# Altium integrated library Maxim Digital Potentiometers.IntLib: 1045 symbols (part 30 of 42)
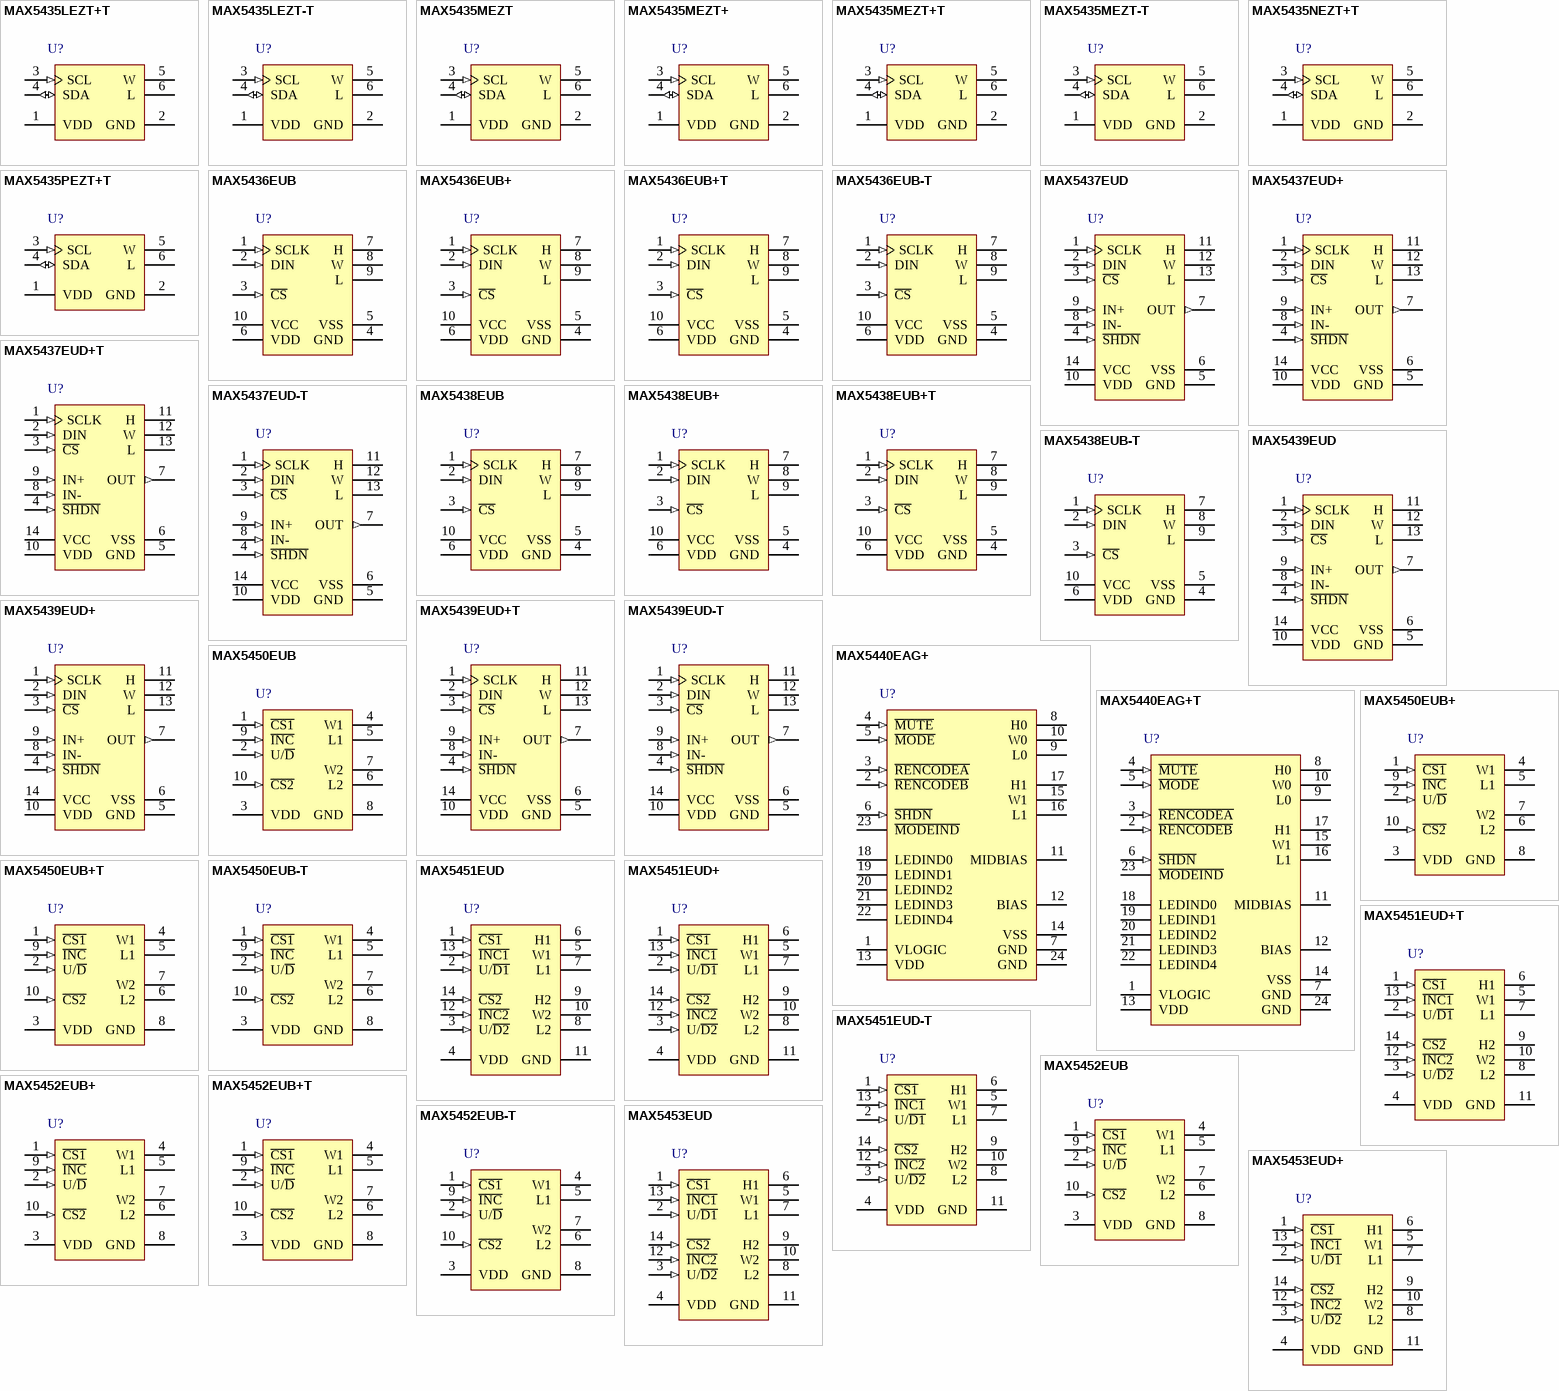
[diagram p58: symbols MAX5435LEZT+T to MAX5453EUD+]

## MAX5440EAG+T
designator U?
Stereo Volume Control with Rotary Encoder Control Interface, Volatile, Log Taper, 32 Steps, -40 to 85 degC, 24-pin SSOP (A24+1), Pb-Free, Tape and Reel; PartNumber: MAX5440EAG+T; DatasheetVersion: Rev. 2; PackageVersion: Rev. C, 02/2010; PackageReference: A24+1; PackageDescription: 24-Pin Shrink Small-Outline Package (A24+1), Body 8.2 x 5.29 mm, Pitch 0.65 mm; Supplier 1: Digi-Key; Supplier Part Number 1: MAX5440EAG+T-ND; Supplier 2: Mouser; Supplier Part Number 2: 700-MAX5440EAGT; Applications: Automotive Back-Seat Multimedia, Desktop Speakers ,Multimedia Docking Stations ,Set-Top Boxes ,Stereo Volume Control; Control Interface: Rotary Encoder; Features: Buffered Wiper Outputs, Five-Segment LED Display Driver ,Low THD+N and Crosstalk ,Rotary Encoder Interface ,Zero-Crossing Detector; Mounting Technology: Surface Mount; Code_JEDEC: MO150; ComponentLink1Description: Manufacturer URL; ComponentLink1URL: http://www.maximintegrated.com/; ComponentLink2Description: Datasheet; ComponentLink2URL: http://datasheets.maximintegrated.com/en/ds/MAX5440.pdf; ComponentLink3Description: Package Specification; ComponentLink3URL: http://pdfserv.maximintegrated.com/package_dwgs/21-0056.PDF
footprint MAXM-A24+1_N (SOP, 24-Leads, Body 8.2x5.29mm, Pitch 0.65mm, IPC Medium Density)
footprint MAXM-A24+1_L (SOP, 24-Leads, Body 8.2x5.29mm, Pitch 0.65mm, IPC High Density)
footprint MAXM-A24+1_M (SOP, 24-Leads, Body 8.2x5.29mm, Pitch 0.65mm, IPC Low Density)
pins: 1 VLOGIC (power) "Digital Logic Power Supply. Bypass VLOGIC to ground with a 0.1uF capacitor as close to the device as possible.", 2 ~{RENCODEB} (in) "Rotary Encoder Input B. With R\E\N\C\O\D\E\A\, this input provides the rotary encoder control for the potentiometer (see Figure 1). R\E\N\C\O\D\E\B\ is internally pulled up to VLOGIC with a 45k ohm resistor.", 3 ~{RENCODEA} (in) "Rotary Encoder Input A. With R\E\N\C\O\D\E\B\, this input provides the rotary encoder control for the potentiometer (see Figure 1). R\E\N\C\O\D\E\A\ is internally pulled up to VLOGIC with a 45k ohm resistor.", 4 ~{MUTE} (in) "Mute Input. Pull M\U\T\E\ low to toggle the wiper between the mute setting (see Table 1) and the current setting. M\U\T\E\ is pulled up to VLOGIC with an internal 45k ohm resistor.", 5 ~{MODE} (in) "Volume/Balance Control Input. Each high-to-low transition on M\O\D\E\ toggles between the volume and balance modes. M\O\D\E\ is pulled high internally with a 45k ohm resistor to VLOGIC. On power-up, the MAX5440 is in (See Datasheet)", 6 ~{SHDN} (in) "Active-Low Shutdown Input. Drive S\H\D\N\ low to place the device in shutdown mode. In shutdown mode, the MAX5440 stores the last wipers settings. The wipers move to the L_ end of the resistor string. Terminating shutdown (See Datasheet)", 7 GND (power) "Ground. Connect pins 7 and 24 together.", 8 H0 "Potentiometer 0 High Terminal. H0 and L0 terminals can be reversed.", 9 L0 "Potentiometer 0 Low Terminal. L0 and H0 terminals can be reversed.", 10 W0 "Potentiometer 0 Wiper Buffered Output", 11 MIDBIAS (power) "Midbias Voltage Output. VMIDBIAS = (VDD + VSS) / 2.", 12 BIAS "Bias Generator Input. Bypass with a 1uF capacitor to system ground.", 13 VDD (power) "Analog Power Supply. Bypass VDD to ground with a 0.1uF capacitor as close to the device as possible.", 14 VSS (power) "Negative Power Supply. Bypass VSS to ground with a 0.1uF capacitor as close to the device as possible. Connect to GND for single-supply operation.", 15 W1 "Potentiometer 1 Wiper Buffered Output", 16 L1 "Potentiometer 1 Low Terminal. L1 and H1 terminals can be reversed.", 17 H1 "Potentiometer 1 High Terminal. H1 and L1 terminals can be reversed.", 18 LEDIND0 (oc) "LED Indicator Open-Drain Output 0 through LED Indicator Open-Drain Output 4. LEDIND 0-LEDIND 4 form a bar graph indication of the current volume or balance. In volume mode, all LEDs off indicates mute and all LEDs on (See Datasheet)", 19 LEDIND1 (oc) "LED Indicator Open-Drain Output 0 through LED Indicator Open-Drain Output 4. LEDIND 0-LEDIND 4 form a bar graph indication of the current volume or balance. In volume mode, all LEDs off indicates mute and all LEDs on (See Datasheet)", 20 LEDIND2 (oc) "LED Indicator Open-Drain Output 0 through LED Indicator Open-Drain Output 4. LEDIND 0-LEDIND 4 form a bar graph indication of the current volume or balance. In volume mode, all LEDs off indicates mute and all LEDs on (See Datasheet)", 21 LEDIND3 (oc) "LED Indicator Open-Drain Output 0 through LED Indicator Open-Drain Output 4. LEDIND 0-LEDIND 4 form a bar graph indication of the current volume or balance. In volume mode, all LEDs off indicates mute and all LEDs on (See Datasheet)", 22 LEDIND4 (oc) "LED Indicator Open-Drain Output 0 through LED Indicator Open-Drain Output 4. LEDIND 0-LEDIND 4 form a bar graph indication of the current volume or balance. In volume mode, all LEDs off indicates mute and all LEDs on (See Datasheet)", 23 ~{MODEIND} (oc) "Volume-Control/Balance-Control Mode Indicator Open-Drain Output. Connect to an LED through a resistor to VLOGIC. When the LED is on, the MAX5440 is in balance-control mode. When the LED is off, the MAX5440 is in (See Datasheet)", 24 GND (power) "Ground. Connect pins 7 and 24 together."

## MAX5450EUB
designator U?
Dual Digital Potentiometers with Up/Down Control Interface, Volatile, Linear Taper, 256 Steps, -40 to 85 degC, 10-pin uMAX (U10CN-1); PartNumber: MAX5450EUB; DatasheetVersion: Rev. 2; PackageVersion: Rev. L, 07/2008; PackageReference: U10CN-1; PackageDescription: 10-Pin Micro-MAX, Thin Shrink Small-Outline (U10CN-1), Body 3 x 3 mm, Pitch 0.5 mm; Supplier 1: Mouser; Supplier Part Number 1: N/A; Control Interface: Up/Down; Mounting Technology: Surface Mount; Code_JEDEC: MO-187; ComponentLink1Description: Manufacturer URL; ComponentLink1URL: http://www.maximintegrated.com/; ComponentLink2Description: Datasheet; ComponentLink2URL: http://datasheets.maximintegrated.com/en/ds/MAX5450-MAX5455.pdf; ComponentLink3Description: Package Specification; ComponentLink3URL: http://pdfserv.maximintegrated.com/package_dwgs/21-0061.PDF
footprint MAXM-U10CN-1_N (SOP, 10-Leads, Body 3x3mm, Pitch 0.5mm, IPC Medium Density)
footprint MAXM-U10CN-1_L (SOP, 10-Leads, Body 3x3mm, Pitch 0.5mm, IPC High Density)
footprint MAXM-U10CN-1_M (SOP, 10-Leads, Body 3x3mm, Pitch 0.5mm, IPC Low Density)
pins: 1 ~{CS1} (in) "Chip-Select Input of Resistor 1. Drive low to change wiper position W1 through I\N\C\ and U/D\.", 2 U/~{D} (in) "Up/Down Control Input. With U/D\ low, a high-to-low I\N\C\ transition decrements wiper position. With U/D\ high, a high-to-low I\N\C\ transition increments wiper position.", 3 VDD (power) "Power Supply", 4 W1 "Wiper Terminal of Resistor 1", 5 L1 "Low Terminal of Resistor 1", 6 L2 "Low Terminal of Resistor 2", 7 W2 "Wiper Terminal of Resistor 2", 8 GND (power) "Ground", 9 ~{INC} (in) "Wiper Increment Control Input. With C\S\1\  low, a high-to-low transition increments (U/D\ high) or decrements (U/D\ low) wiper position W1. This applies similarly for C\S\2\ and W2.", 10 ~{CS2} (in) "Chip-Select Input of Resistor 2.  Drive low to change wiper position W2 through I\N\C\ and U/D\."

## MAX5450EUB+
designator U?
Dual Digital Potentiometers with Up/Down Control Interface, Volatile, Linear Taper, 256 Steps, -40 to 85 degC, 10-pin uMAX (U10CN+1), Pb-Free; PartNumber: MAX5450EUB+; DatasheetVersion: Rev. 2; PackageVersion: Rev. L, 07/2008; PackageReference: U10CN+1; PackageDescription: 10-Pin Micro-MAX, Thin Shrink Small-Outline (U10CN+1), Body 3 x 3 mm, Pitch 0.5 mm; Supplier 1: Digi-Key; Supplier Part Number 1: MAX5450EUB+-ND; Supplier 2: Mouser; Supplier Part Number 2: 700-MAX5450EUB; Control Interface: Up/Down; Mounting Technology: Surface Mount; Code_JEDEC: MO-187; ComponentLink1Description: Manufacturer URL; ComponentLink1URL: http://www.maximintegrated.com/; ComponentLink2Description: Datasheet; ComponentLink2URL: http://datasheets.maximintegrated.com/en/ds/MAX5450-MAX5455.pdf; ComponentLink3Description: Package Specification; ComponentLink3URL: http://pdfserv.maximintegrated.com/package_dwgs/21-0061.PDF
footprint MAXM-U10CN+1_N (SOP, 10-Leads, Body 3x3mm, Pitch 0.5mm, IPC Medium Density)
footprint MAXM-U10CN+1_L (SOP, 10-Leads, Body 3x3mm, Pitch 0.5mm, IPC High Density)
footprint MAXM-U10CN+1_M (SOP, 10-Leads, Body 3x3mm, Pitch 0.5mm, IPC Low Density)
pins: 1 ~{CS1} (in) "Chip-Select Input of Resistor 1. Drive low to change wiper position W1 through I\N\C\ and U/D\.", 2 U/~{D} (in) "Up/Down Control Input. With U/D\ low, a high-to-low I\N\C\ transition decrements wiper position. With U/D\ high, a high-to-low I\N\C\ transition increments wiper position.", 3 VDD (power) "Power Supply", 4 W1 "Wiper Terminal of Resistor 1", 5 L1 "Low Terminal of Resistor 1", 6 L2 "Low Terminal of Resistor 2", 7 W2 "Wiper Terminal of Resistor 2", 8 GND (power) "Ground", 9 ~{INC} (in) "Wiper Increment Control Input. With C\S\1\  low, a high-to-low transition increments (U/D\ high) or decrements (U/D\ low) wiper position W1. This applies similarly for C\S\2\ and W2.", 10 ~{CS2} (in) "Chip-Select Input of Resistor 2.  Drive low to change wiper position W2 through I\N\C\ and U/D\."

## MAX5450EUB+T
designator U?
Dual Digital Potentiometers with Up/Down Control Interface, Volatile, Linear Taper, 256 Steps, -40 to 85 degC, 10-pin uMAX (U10CN+1), Pb-Free, Tape and Reel; PartNumber: MAX5450EUB+T; DatasheetVersion: Rev. 2; PackageVersion: Rev. L, 07/2008; PackageReference: U10CN+1; PackageDescription: 10-Pin Micro-MAX, Thin Shrink Small-Outline (U10CN+1), Body 3 x 3 mm, Pitch 0.5 mm; Supplier 1: Digi-Key; Supplier Part Number 1: MAX5450EUB+T-ND; Supplier 2: Mouser; Supplier Part Number 2: 700-MAX5450EUBT; Control Interface: Up/Down; Mounting Technology: Surface Mount; Code_JEDEC: MO-187; ComponentLink1Description: Manufacturer URL; ComponentLink1URL: http://www.maximintegrated.com/; ComponentLink2Description: Datasheet; ComponentLink2URL: http://datasheets.maximintegrated.com/en/ds/MAX5450-MAX5455.pdf; ComponentLink3Description: Package Specification; ComponentLink3URL: http://pdfserv.maximintegrated.com/package_dwgs/21-0061.PDF
footprint MAXM-U10CN+1_N (SOP, 10-Leads, Body 3x3mm, Pitch 0.5mm, IPC Medium Density)
footprint MAXM-U10CN+1_L (SOP, 10-Leads, Body 3x3mm, Pitch 0.5mm, IPC High Density)
footprint MAXM-U10CN+1_M (SOP, 10-Leads, Body 3x3mm, Pitch 0.5mm, IPC Low Density)
pins: 1 ~{CS1} (in) "Chip-Select Input of Resistor 1. Drive low to change wiper position W1 through I\N\C\ and U/D\.", 2 U/~{D} (in) "Up/Down Control Input. With U/D\ low, a high-to-low I\N\C\ transition decrements wiper position. With U/D\ high, a high-to-low I\N\C\ transition increments wiper position.", 3 VDD (power) "Power Supply", 4 W1 "Wiper Terminal of Resistor 1", 5 L1 "Low Terminal of Resistor 1", 6 L2 "Low Terminal of Resistor 2", 7 W2 "Wiper Terminal of Resistor 2", 8 GND (power) "Ground", 9 ~{INC} (in) "Wiper Increment Control Input. With C\S\1\  low, a high-to-low transition increments (U/D\ high) or decrements (U/D\ low) wiper position W1. This applies similarly for C\S\2\ and W2.", 10 ~{CS2} (in) "Chip-Select Input of Resistor 2.  Drive low to change wiper position W2 through I\N\C\ and U/D\."

## MAX5450EUB-T
designator U?
Dual Digital Potentiometers with Up/Down Control Interface, Volatile, Linear Taper, 256 Steps, -40 to 85 degC, 10-pin uMAX (U10CN-1), Tape and Reel; PartNumber: MAX5450EUB-T; DatasheetVersion: Rev. 2; PackageVersion: Rev. L, 07/2008; PackageReference: U10CN-1; PackageDescription: 10-Pin Micro-MAX, Thin Shrink Small-Outline (U10CN-1), Body 3 x 3 mm, Pitch 0.5 mm; Supplier 1: Mouser; Supplier Part Number 1: N/A; Control Interface: Up/Down; Mounting Technology: Surface Mount; Code_JEDEC: MO-187; ComponentLink1Description: Manufacturer URL; ComponentLink1URL: http://www.maximintegrated.com/; ComponentLink2Description: Datasheet; ComponentLink2URL: http://datasheets.maximintegrated.com/en/ds/MAX5450-MAX5455.pdf; ComponentLink3Description: Package Specification; ComponentLink3URL: http://pdfserv.maximintegrated.com/package_dwgs/21-0061.PDF
footprint MAXM-U10CN-1_N (SOP, 10-Leads, Body 3x3mm, Pitch 0.5mm, IPC Medium Density)
footprint MAXM-U10CN-1_L (SOP, 10-Leads, Body 3x3mm, Pitch 0.5mm, IPC High Density)
footprint MAXM-U10CN-1_M (SOP, 10-Leads, Body 3x3mm, Pitch 0.5mm, IPC Low Density)
pins: 1 ~{CS1} (in) "Chip-Select Input of Resistor 1. Drive low to change wiper position W1 through I\N\C\ and U/D\.", 2 U/~{D} (in) "Up/Down Control Input. With U/D\ low, a high-to-low I\N\C\ transition decrements wiper position. With U/D\ high, a high-to-low I\N\C\ transition increments wiper position.", 3 VDD (power) "Power Supply", 4 W1 "Wiper Terminal of Resistor 1", 5 L1 "Low Terminal of Resistor 1", 6 L2 "Low Terminal of Resistor 2", 7 W2 "Wiper Terminal of Resistor 2", 8 GND (power) "Ground", 9 ~{INC} (in) "Wiper Increment Control Input. With C\S\1\  low, a high-to-low transition increments (U/D\ high) or decrements (U/D\ low) wiper position W1. This applies similarly for C\S\2\ and W2.", 10 ~{CS2} (in) "Chip-Select Input of Resistor 2.  Drive low to change wiper position W2 through I\N\C\ and U/D\."

## MAX5451EUD
designator U?
Dual, Digital Potentiometers with Up/Down Control Interface, Volatile, Linear Taper, 256 Steps, -40 to 85 degC, 14-pin TSSOP (U14-1); PartNumber: MAX5451EUD; DatasheetVersion: Rev. 2; PackageVersion: Rev. L, 07/2010; PackageReference: U14-1; PackageDescription: 14-Pin Thin Shrink Small-Outline Package (U14-1), Body 5 x 4.4 mm, Pitch 0.65 mm; Supplier 1: Mouser; Supplier Part Number 1: N/A; Control Interface: Up/Down; Mounting Technology: Surface Mount; Code_JEDEC: MO-153; ComponentLink1Description: Manufacturer URL; ComponentLink1URL: http://www.maximintegrated.com/; ComponentLink2Description: Datasheet; ComponentLink2URL: http://datasheets.maximintegrated.com/en/ds/MAX5450-MAX5455.pdf; ComponentLink3Description: Package Specification; ComponentLink3URL: http://pdfserv.maximintegrated.com/package_dwgs/21-0066.PDF
footprint MAXM-U14-1_N (SOP, 14-Leads, Body 5x4.4mm, Pitch 0.65mm, IPC Medium Density)
footprint MAXM-U14-1_L (SOP, 14-Leads, Body 5x4.4mm, Pitch 0.65mm, IPC High Density)
footprint MAXM-U14-1_M (SOP, 14-Leads, Body 5x4.4mm, Pitch 0.65mm, IPC Low Density)
pins: 1 ~{CS1} (in) "Chip-Select Input of Resistor 1. Drive low to change wiper position W1 through I\N\C\ and U/D\.", 2 U/~{D1} (in) "Up/Down Control Input of Resistor 1. With U/D\1\ low, a high-to-low I\N\C\1\ transition decrements wiper position W1. With U/D\1\ high, a high-to-low I\N\C\1\ transition increments wiper position W1.", 3 U/~{D2} (in) "Up/Down Control Input of Resistor 2. With U/D\2\ low, a high-to-low I\N\C\2\ transition decrements wiper position W2.  With U/D\2\ high, a high-to-low I\N\C\2\ transition increments wiper position W2.", 4 VDD (power) "Power Supply", 5 W1 "Wiper Terminal of Resistor 1", 6 H1 "High Terminal of Resistor 1", 7 L1 "Low Terminal of Resistor 1", 8 L2 "Low Terminal of Resistor 2", 9 H2 "High Terminal of Resistor 2", 10 W2 "Wiper Terminal of Resistor 2", 11 GND (power) "Ground", 12 ~{INC2} (in) "Wiper Increment Control Input. With C\S\2\ low, a high-to-low transition increments (U/D\2\ high) or decrements (U/D\2\ low) wiper position W2.", 13 ~{INC1} (in) "Wiper Increment Control Input. With C\S\1\ low, a high-to-low transition increments (U/D\1\ high) or decrements (U/D\1\ low) wiper position W1.", 14 ~{CS2} (in) "Chip-Select Input of Resistor 2.  Drive low to change wiper position W2 through I\N\C\ and U/D\."

## MAX5451EUD+
designator U?
Dual, Digital Potentiometers with Up/Down Control Interface, Volatile, Linear Taper, 256 Steps, -40 to 85 degC, 14-pin TSSOP (U14+1), Pb-Free; PartNumber: MAX5451EUD+; DatasheetVersion: Rev. 2; PackageVersion: Rev. L, 07/2010; PackageReference: U14+1; PackageDescription: 14-Pin Thin Shrink Small-Outline Package (U14+1), Body 5 x 4.4 mm, Pitch 0.65 mm; Supplier 1: Digi-Key; Supplier Part Number 1: MAX5451EUD+-ND; Supplier 2: Mouser; Supplier Part Number 2: 700-MAX5451EUD; Control Interface: Up/Down; Mounting Technology: Surface Mount; Code_JEDEC: MO-153; ComponentLink1Description: Manufacturer URL; ComponentLink1URL: http://www.maximintegrated.com/; ComponentLink2Description: Datasheet; ComponentLink2URL: http://datasheets.maximintegrated.com/en/ds/MAX5450-MAX5455.pdf; ComponentLink3Description: Package Specification; ComponentLink3URL: http://pdfserv.maximintegrated.com/package_dwgs/21-0066.PDF
footprint MAXM-U14+1_N (SOP, 14-Leads, Body 5x4.4mm, Pitch 0.65mm, IPC Medium Density)
footprint MAXM-U14+1_L (SOP, 14-Leads, Body 5x4.4mm, Pitch 0.65mm, IPC High Density)
footprint MAXM-U14+1_M (SOP, 14-Leads, Body 5x4.4mm, Pitch 0.65mm, IPC Low Density)
pins: 1 ~{CS1} (in) "Chip-Select Input of Resistor 1. Drive low to change wiper position W1 through I\N\C\ and U/D\.", 2 U/~{D1} (in) "Up/Down Control Input of Resistor 1. With U/D\1\ low, a high-to-low I\N\C\1\ transition decrements wiper position W1. With U/D\1\ high, a high-to-low I\N\C\1\ transition increments wiper position W1.", 3 U/~{D2} (in) "Up/Down Control Input of Resistor 2. With U/D\2\ low, a high-to-low I\N\C\2\ transition decrements wiper position W2.  With U/D\2\ high, a high-to-low I\N\C\2\ transition increments wiper position W2.", 4 VDD (power) "Power Supply", 5 W1 "Wiper Terminal of Resistor 1", 6 H1 "High Terminal of Resistor 1", 7 L1 "Low Terminal of Resistor 1", 8 L2 "Low Terminal of Resistor 2", 9 H2 "High Terminal of Resistor 2", 10 W2 "Wiper Terminal of Resistor 2", 11 GND (power) "Ground", 12 ~{INC2} (in) "Wiper Increment Control Input. With C\S\2\ low, a high-to-low transition increments (U/D\2\ high) or decrements (U/D\2\ low) wiper position W2.", 13 ~{INC1} (in) "Wiper Increment Control Input. With C\S\1\ low, a high-to-low transition increments (U/D\1\ high) or decrements (U/D\1\ low) wiper position W1.", 14 ~{CS2} (in) "Chip-Select Input of Resistor 2.  Drive low to change wiper position W2 through I\N\C\ and U/D\."

## MAX5451EUD+T
designator U?
Dual, Digital Potentiometers with Up/Down Control Interface, Volatile, Linear Taper, 256 Steps, -40 to 85 degC, 14-pin TSSOP (U14+1), Pb-Free, Tape and Reel; PartNumber: MAX5451EUD+T; DatasheetVersion: Rev. 2; PackageVersion: Rev. L, 07/2010; PackageReference: U14+1; PackageDescription: 14-Pin Thin Shrink Small-Outline Package (U14+1), Body 5 x 4.4 mm, Pitch 0.65 mm; Supplier 1: Digi-Key; Supplier Part Number 1: MAX5451EUD+T-ND; Supplier 2: Mouser; Supplier Part Number 2: 700-MAX5451EUDT; Control Interface: Up/Down; Mounting Technology: Surface Mount; Code_JEDEC: MO-153; ComponentLink1Description: Manufacturer URL; ComponentLink1URL: http://www.maximintegrated.com/; ComponentLink2Description: Datasheet; ComponentLink2URL: http://datasheets.maximintegrated.com/en/ds/MAX5450-MAX5455.pdf; ComponentLink3Description: Package Specification; ComponentLink3URL: http://pdfserv.maximintegrated.com/package_dwgs/21-0066.PDF
footprint MAXM-U14+1_N (SOP, 14-Leads, Body 5x4.4mm, Pitch 0.65mm, IPC Medium Density)
footprint MAXM-U14+1_L (SOP, 14-Leads, Body 5x4.4mm, Pitch 0.65mm, IPC High Density)
footprint MAXM-U14+1_M (SOP, 14-Leads, Body 5x4.4mm, Pitch 0.65mm, IPC Low Density)
pins: 1 ~{CS1} (in) "Chip-Select Input of Resistor 1. Drive low to change wiper position W1 through I\N\C\ and U/D\.", 2 U/~{D1} (in) "Up/Down Control Input of Resistor 1. With U/D\1\ low, a high-to-low I\N\C\1\ transition decrements wiper position W1. With U/D\1\ high, a high-to-low I\N\C\1\ transition increments wiper position W1.", 3 U/~{D2} (in) "Up/Down Control Input of Resistor 2. With U/D\2\ low, a high-to-low I\N\C\2\ transition decrements wiper position W2.  With U/D\2\ high, a high-to-low I\N\C\2\ transition increments wiper position W2.", 4 VDD (power) "Power Supply", 5 W1 "Wiper Terminal of Resistor 1", 6 H1 "High Terminal of Resistor 1", 7 L1 "Low Terminal of Resistor 1", 8 L2 "Low Terminal of Resistor 2", 9 H2 "High Terminal of Resistor 2", 10 W2 "Wiper Terminal of Resistor 2", 11 GND (power) "Ground", 12 ~{INC2} (in) "Wiper Increment Control Input. With C\S\2\ low, a high-to-low transition increments (U/D\2\ high) or decrements (U/D\2\ low) wiper position W2.", 13 ~{INC1} (in) "Wiper Increment Control Input. With C\S\1\ low, a high-to-low transition increments (U/D\1\ high) or decrements (U/D\1\ low) wiper position W1.", 14 ~{CS2} (in) "Chip-Select Input of Resistor 2.  Drive low to change wiper position W2 through I\N\C\ and U/D\."

## MAX5451EUD-T
designator U?
Dual, Digital Potentiometers with Up/Down Control Interface, Volatile, Linear Taper, 256 Steps, -40 to 85 degC, 14-pin TSSOP (U14-1), Tape and Reel; PartNumber: MAX5451EUD-T; DatasheetVersion: Rev. 2; PackageVersion: Rev. L, 07/2010; PackageReference: U14-1; PackageDescription: 14-Pin Thin Shrink Small-Outline Package (U14-1), Body 5 x 4.4 mm, Pitch 0.65 mm; Supplier 1: Mouser; Supplier Part Number 1: N/A; Control Interface: Up/Down; Mounting Technology: Surface Mount; Code_JEDEC: MO-153; ComponentLink1Description: Manufacturer URL; ComponentLink1URL: http://www.maximintegrated.com/; ComponentLink2Description: Datasheet; ComponentLink2URL: http://datasheets.maximintegrated.com/en/ds/MAX5450-MAX5455.pdf; ComponentLink3Description: Package Specification; ComponentLink3URL: http://pdfserv.maximintegrated.com/package_dwgs/21-0066.PDF
footprint MAXM-U14-1_N (SOP, 14-Leads, Body 5x4.4mm, Pitch 0.65mm, IPC Medium Density)
footprint MAXM-U14-1_L (SOP, 14-Leads, Body 5x4.4mm, Pitch 0.65mm, IPC High Density)
footprint MAXM-U14-1_M (SOP, 14-Leads, Body 5x4.4mm, Pitch 0.65mm, IPC Low Density)
pins: 1 ~{CS1} (in) "Chip-Select Input of Resistor 1. Drive low to change wiper position W1 through I\N\C\ and U/D\.", 2 U/~{D1} (in) "Up/Down Control Input of Resistor 1. With U/D\1\ low, a high-to-low I\N\C\1\ transition decrements wiper position W1. With U/D\1\ high, a high-to-low I\N\C\1\ transition increments wiper position W1.", 3 U/~{D2} (in) "Up/Down Control Input of Resistor 2. With U/D\2\ low, a high-to-low I\N\C\2\ transition decrements wiper position W2.  With U/D\2\ high, a high-to-low I\N\C\2\ transition increments wiper position W2.", 4 VDD (power) "Power Supply", 5 W1 "Wiper Terminal of Resistor 1", 6 H1 "High Terminal of Resistor 1", 7 L1 "Low Terminal of Resistor 1", 8 L2 "Low Terminal of Resistor 2", 9 H2 "High Terminal of Resistor 2", 10 W2 "Wiper Terminal of Resistor 2", 11 GND (power) "Ground", 12 ~{INC2} (in) "Wiper Increment Control Input. With C\S\2\ low, a high-to-low transition increments (U/D\2\ high) or decrements (U/D\2\ low) wiper position W2.", 13 ~{INC1} (in) "Wiper Increment Control Input. With C\S\1\ low, a high-to-low transition increments (U/D\1\ high) or decrements (U/D\1\ low) wiper position W1.", 14 ~{CS2} (in) "Chip-Select Input of Resistor 2.  Drive low to change wiper position W2 through I\N\C\ and U/D\."

## MAX5452EUB
designator U?
Dual, Digital Potentiometers with Up/Down Control Interface, Volatile, Linear Taper, 256 Steps, -40 to 85 degC, 10-pin uMAX (U10CN-1); PartNumber: MAX5452EUB; DatasheetVersion: Rev. 2; PackageVersion: Rev. L, 07/2008; PackageReference: U10CN-1; PackageDescription: 10-Pin Micro-MAX, Thin Shrink Small-Outline (U10CN-1), Body 3 x 3 mm, Pitch 0.5 mm; Supplier 1: Mouser; Supplier Part Number 1: N/A; Control Interface: Up/Down; Mounting Technology: Surface Mount; Code_JEDEC: MO-187; ComponentLink1Description: Manufacturer URL; ComponentLink1URL: http://www.maximintegrated.com/; ComponentLink2Description: Datasheet; ComponentLink2URL: http://datasheets.maximintegrated.com/en/ds/MAX5450-MAX5455.pdf; ComponentLink3Description: Package Specification; ComponentLink3URL: http://pdfserv.maximintegrated.com/package_dwgs/21-0061.PDF
footprint MAXM-U10CN-1_N (SOP, 10-Leads, Body 3x3mm, Pitch 0.5mm, IPC Medium Density)
footprint MAXM-U10CN-1_L (SOP, 10-Leads, Body 3x3mm, Pitch 0.5mm, IPC High Density)
footprint MAXM-U10CN-1_M (SOP, 10-Leads, Body 3x3mm, Pitch 0.5mm, IPC Low Density)
pins: 1 ~{CS1} (in) "Chip-Select Input of Resistor 1. Drive low to change wiper position W1 through I\N\C\ and U/D\.", 2 U/~{D} (in) "Up/Down Control Input. With U/D\ low, a high-to-low I\N\C\ transition decrements wiper position. With U/D\ high, a high-to-low I\N\C\ transition increments wiper position.", 3 VDD (power) "Power Supply", 4 W1 "Wiper Terminal of Resistor 1", 5 L1 "Low Terminal of Resistor 1", 6 L2 "Low Terminal of Resistor 2", 7 W2 "Wiper Terminal of Resistor 2", 8 GND (power) "Ground", 9 ~{INC} (in) "Wiper Increment Control Input. With C\S\1\  low, a high-to-low transition increments (U/D\ high) or decrements (U/D\ low) wiper position W1. This applies similarly for C\S\2\ and W2.", 10 ~{CS2} (in) "Chip-Select Input of Resistor 2.  Drive low to change wiper position W2 through I\N\C\ and U/D\."

## MAX5452EUB+
designator U?
Dual, Digital Potentiometers with Up/Down Control Interface, Volatile, Linear Taper, 256 Steps, -40 to 85 degC, 10-pin uMAX (U10CN+1), Pb-Free; PartNumber: MAX5452EUB+; DatasheetVersion: Rev. 2; PackageVersion: Rev. L, 07/2008; PackageReference: U10CN+1; PackageDescription: 10-Pin Micro-MAX, Thin Shrink Small-Outline (U10CN+1), Body 3 x 3 mm, Pitch 0.5 mm; Supplier 1: Digi-Key; Supplier Part Number 1: MAX5452EUB+-ND; Supplier 2: Mouser; Supplier Part Number 2: 700-MAX5452EUB; Control Interface: Up/Down; Mounting Technology: Surface Mount; Code_JEDEC: MO-187; ComponentLink1Description: Manufacturer URL; ComponentLink1URL: http://www.maximintegrated.com/; ComponentLink2Description: Datasheet; ComponentLink2URL: http://datasheets.maximintegrated.com/en/ds/MAX5450-MAX5455.pdf; ComponentLink3Description: Package Specification; ComponentLink3URL: http://pdfserv.maximintegrated.com/package_dwgs/21-0061.PDF
footprint MAXM-U10CN+1_N (SOP, 10-Leads, Body 3x3mm, Pitch 0.5mm, IPC Medium Density)
footprint MAXM-U10CN+1_L (SOP, 10-Leads, Body 3x3mm, Pitch 0.5mm, IPC High Density)
footprint MAXM-U10CN+1_M (SOP, 10-Leads, Body 3x3mm, Pitch 0.5mm, IPC Low Density)
pins: 1 ~{CS1} (in) "Chip-Select Input of Resistor 1. Drive low to change wiper position W1 through I\N\C\ and U/D\.", 2 U/~{D} (in) "Up/Down Control Input. With U/D\ low, a high-to-low I\N\C\ transition decrements wiper position. With U/D\ high, a high-to-low I\N\C\ transition increments wiper position.", 3 VDD (power) "Power Supply", 4 W1 "Wiper Terminal of Resistor 1", 5 L1 "Low Terminal of Resistor 1", 6 L2 "Low Terminal of Resistor 2", 7 W2 "Wiper Terminal of Resistor 2", 8 GND (power) "Ground", 9 ~{INC} (in) "Wiper Increment Control Input. With C\S\1\  low, a high-to-low transition increments (U/D\ high) or decrements (U/D\ low) wiper position W1. This applies similarly for C\S\2\ and W2.", 10 ~{CS2} (in) "Chip-Select Input of Resistor 2.  Drive low to change wiper position W2 through I\N\C\ and U/D\."

## MAX5452EUB+T
designator U?
Dual, Digital Potentiometers with Up/Down Control Interface, Volatile, Linear Taper, 256 Steps, -40 to 85 degC, 10-pin uMAX (U10CN+1), Pb-Free, Tape and Reel; PartNumber: MAX5452EUB+T; DatasheetVersion: Rev. 2; PackageVersion: Rev. L, 07/2008; PackageReference: U10CN+1; PackageDescription: 10-Pin Micro-MAX, Thin Shrink Small-Outline (U10CN+1), Body 3 x 3 mm, Pitch 0.5 mm; Supplier 1: Digi-Key; Supplier Part Number 1: MAX5452EUB+T-ND; Supplier 2: Mouser; Supplier Part Number 2: 700-MAX5452EUBT; Control Interface: Up/Down; Mounting Technology: Surface Mount; Code_JEDEC: MO-187; ComponentLink1Description: Manufacturer URL; ComponentLink1URL: http://www.maximintegrated.com/; ComponentLink2Description: Datasheet; ComponentLink2URL: http://datasheets.maximintegrated.com/en/ds/MAX5450-MAX5455.pdf; ComponentLink3Description: Package Specification; ComponentLink3URL: http://pdfserv.maximintegrated.com/package_dwgs/21-0061.PDF
footprint MAXM-U10CN+1_N (SOP, 10-Leads, Body 3x3mm, Pitch 0.5mm, IPC Medium Density)
footprint MAXM-U10CN+1_L (SOP, 10-Leads, Body 3x3mm, Pitch 0.5mm, IPC High Density)
footprint MAXM-U10CN+1_M (SOP, 10-Leads, Body 3x3mm, Pitch 0.5mm, IPC Low Density)
pins: 1 ~{CS1} (in) "Chip-Select Input of Resistor 1. Drive low to change wiper position W1 through I\N\C\ and U/D\.", 2 U/~{D} (in) "Up/Down Control Input. With U/D\ low, a high-to-low I\N\C\ transition decrements wiper position. With U/D\ high, a high-to-low I\N\C\ transition increments wiper position.", 3 VDD (power) "Power Supply", 4 W1 "Wiper Terminal of Resistor 1", 5 L1 "Low Terminal of Resistor 1", 6 L2 "Low Terminal of Resistor 2", 7 W2 "Wiper Terminal of Resistor 2", 8 GND (power) "Ground", 9 ~{INC} (in) "Wiper Increment Control Input. With C\S\1\  low, a high-to-low transition increments (U/D\ high) or decrements (U/D\ low) wiper position W1. This applies similarly for C\S\2\ and W2.", 10 ~{CS2} (in) "Chip-Select Input of Resistor 2.  Drive low to change wiper position W2 through I\N\C\ and U/D\."

## MAX5452EUB-T
designator U?
Dual, Digital Potentiometers with Up/Down Control Interface, Volatile, Linear Taper, 256 Steps, -40 to 85 degC, 10-pin uMAX (U10CN-1), Tape and Reel; PartNumber: MAX5452EUB-T; DatasheetVersion: Rev. 2; PackageVersion: Rev. L, 07/2008; PackageReference: U10CN-1; PackageDescription: 10-Pin Micro-MAX, Thin Shrink Small-Outline (U10CN-1), Body 3 x 3 mm, Pitch 0.5 mm; Supplier 1: Mouser; Supplier Part Number 1: N/A; Control Interface: Up/Down; Mounting Technology: Surface Mount; Code_JEDEC: MO-187; ComponentLink1Description: Manufacturer URL; ComponentLink1URL: http://www.maximintegrated.com/; ComponentLink2Description: Datasheet; ComponentLink2URL: http://datasheets.maximintegrated.com/en/ds/MAX5450-MAX5455.pdf; ComponentLink3Description: Package Specification; ComponentLink3URL: http://pdfserv.maximintegrated.com/package_dwgs/21-0061.PDF
footprint MAXM-U10CN-1_N (SOP, 10-Leads, Body 3x3mm, Pitch 0.5mm, IPC Medium Density)
footprint MAXM-U10CN-1_L (SOP, 10-Leads, Body 3x3mm, Pitch 0.5mm, IPC High Density)
footprint MAXM-U10CN-1_M (SOP, 10-Leads, Body 3x3mm, Pitch 0.5mm, IPC Low Density)
pins: 1 ~{CS1} (in) "Chip-Select Input of Resistor 1. Drive low to change wiper position W1 through I\N\C\ and U/D\.", 2 U/~{D} (in) "Up/Down Control Input. With U/D\ low, a high-to-low I\N\C\ transition decrements wiper position. With U/D\ high, a high-to-low I\N\C\ transition increments wiper position.", 3 VDD (power) "Power Supply", 4 W1 "Wiper Terminal of Resistor 1", 5 L1 "Low Terminal of Resistor 1", 6 L2 "Low Terminal of Resistor 2", 7 W2 "Wiper Terminal of Resistor 2", 8 GND (power) "Ground", 9 ~{INC} (in) "Wiper Increment Control Input. With C\S\1\  low, a high-to-low transition increments (U/D\ high) or decrements (U/D\ low) wiper position W1. This applies similarly for C\S\2\ and W2.", 10 ~{CS2} (in) "Chip-Select Input of Resistor 2.  Drive low to change wiper position W2 through I\N\C\ and U/D\."

## MAX5453EUD
designator U?
Dual, Digital Potentiometers with Up/Down Control Interface, Volatile, Linear Taper, 256 Steps, -40 to 85 degC, 14-pin TSSOP (U14-1); PartNumber: MAX5453EUD; DatasheetVersion: Rev. 2; PackageVersion: Rev. L, 07/2010; PackageReference: U14-1; PackageDescription: 14-Pin Thin Shrink Small-Outline Package (U14-1), Body 5 x 4.4 mm, Pitch 0.65 mm; Supplier 1: Mouser; Supplier Part Number 1: N/A; Control Interface: Up/Down; Mounting Technology: Surface Mount; Code_JEDEC: MO-153; ComponentLink1Description: Manufacturer URL; ComponentLink1URL: http://www.maximintegrated.com/; ComponentLink2Description: Datasheet; ComponentLink2URL: http://datasheets.maximintegrated.com/en/ds/MAX5450-MAX5455.pdf; ComponentLink3Description: Package Specification; ComponentLink3URL: http://pdfserv.maximintegrated.com/package_dwgs/21-0066.PDF
footprint MAXM-U14-1_N (SOP, 14-Leads, Body 5x4.4mm, Pitch 0.65mm, IPC Medium Density)
footprint MAXM-U14-1_L (SOP, 14-Leads, Body 5x4.4mm, Pitch 0.65mm, IPC High Density)
footprint MAXM-U14-1_M (SOP, 14-Leads, Body 5x4.4mm, Pitch 0.65mm, IPC Low Density)
pins: 1 ~{CS1} (in) "Chip-Select Input of Resistor 1. Drive low to change wiper position W1 through I\N\C\ and U/D\.", 2 U/~{D1} (in) "Up/Down Control Input of Resistor 1. With U/D\1\ low, a high-to-low I\N\C\1\ transition decrements wiper position W1. With U/D\1\ high, a high-to-low I\N\C\1\ transition increments wiper position W1.", 3 U/~{D2} (in) "Up/Down Control Input of Resistor 2. With U/D\2\ low, a high-to-low I\N\C\2\ transition decrements wiper position W2.  With U/D\2\ high, a high-to-low I\N\C\2\ transition increments wiper position W2.", 4 VDD (power) "Power Supply", 5 W1 "Wiper Terminal of Resistor 1", 6 H1 "High Terminal of Resistor 1", 7 L1 "Low Terminal of Resistor 1", 8 L2 "Low Terminal of Resistor 2", 9 H2 "High Terminal of Resistor 2", 10 W2 "Wiper Terminal of Resistor 2", 11 GND (power) "Ground", 12 ~{INC2} (in) "Wiper Increment Control Input. With C\S\2\ low, a high-to-low transition increments (U/D\2\ high) or decrements (U/D\2\ low) wiper position W2.", 13 ~{INC1} (in) "Wiper Increment Control Input. With C\S\1\ low, a high-to-low transition increments (U/D\1\ high) or decrements (U/D\1\ low) wiper position W1.", 14 ~{CS2} (in) "Chip-Select Input of Resistor 2.  Drive low to change wiper position W2 through I\N\C\ and U/D\."

## MAX5453EUD+
designator U?
Dual, Digital Potentiometers with Up/Down Control Interface, Volatile, Linear Taper, 256 Steps, -40 to 85 degC, 14-pin TSSOP (U14+1), Pb-Free; PartNumber: MAX5453EUD+; DatasheetVersion: Rev. 2; PackageVersion: Rev. L, 07/2010; PackageReference: U14+1; PackageDescription: 14-Pin Thin Shrink Small-Outline Package (U14+1), Body 5 x 4.4 mm, Pitch 0.65 mm; Supplier 1: Digi-Key; Supplier Part Number 1: MAX5453EUD+-ND; Supplier 2: Mouser; Supplier Part Number 2: 700-MAX5453EUD; Control Interface: Up/Down; Mounting Technology: Surface Mount; Code_JEDEC: MO-153; ComponentLink1Description: Manufacturer URL; ComponentLink1URL: http://www.maximintegrated.com/; ComponentLink2Description: Datasheet; ComponentLink2URL: http://datasheets.maximintegrated.com/en/ds/MAX5450-MAX5455.pdf; ComponentLink3Description: Package Specification; ComponentLink3URL: http://pdfserv.maximintegrated.com/package_dwgs/21-0066.PDF
footprint MAXM-U14+1_N (SOP, 14-Leads, Body 5x4.4mm, Pitch 0.65mm, IPC Medium Density)
footprint MAXM-U14+1_L (SOP, 14-Leads, Body 5x4.4mm, Pitch 0.65mm, IPC High Density)
footprint MAXM-U14+1_M (SOP, 14-Leads, Body 5x4.4mm, Pitch 0.65mm, IPC Low Density)
pins: 1 ~{CS1} (in) "Chip-Select Input of Resistor 1. Drive low to change wiper position W1 through I\N\C\ and U/D\.", 2 U/~{D1} (in) "Up/Down Control Input of Resistor 1. With U/D\1\ low, a high-to-low I\N\C\1\ transition decrements wiper position W1. With U/D\1\ high, a high-to-low I\N\C\1\ transition increments wiper position W1.", 3 U/~{D2} (in) "Up/Down Control Input of Resistor 2. With U/D\2\ low, a high-to-low I\N\C\2\ transition decrements wiper position W2.  With U/D\2\ high, a high-to-low I\N\C\2\ transition increments wiper position W2.", 4 VDD (power) "Power Supply", 5 W1 "Wiper Terminal of Resistor 1", 6 H1 "High Terminal of Resistor 1", 7 L1 "Low Terminal of Resistor 1", 8 L2 "Low Terminal of Resistor 2", 9 H2 "High Terminal of Resistor 2", 10 W2 "Wiper Terminal of Resistor 2", 11 GND (power) "Ground", 12 ~{INC2} (in) "Wiper Increment Control Input. With C\S\2\ low, a high-to-low transition increments (U/D\2\ high) or decrements (U/D\2\ low) wiper position W2.", 13 ~{INC1} (in) "Wiper Increment Control Input. With C\S\1\ low, a high-to-low transition increments (U/D\1\ high) or decrements (U/D\1\ low) wiper position W1.", 14 ~{CS2} (in) "Chip-Select Input of Resistor 2.  Drive low to change wiper position W2 through I\N\C\ and U/D\."

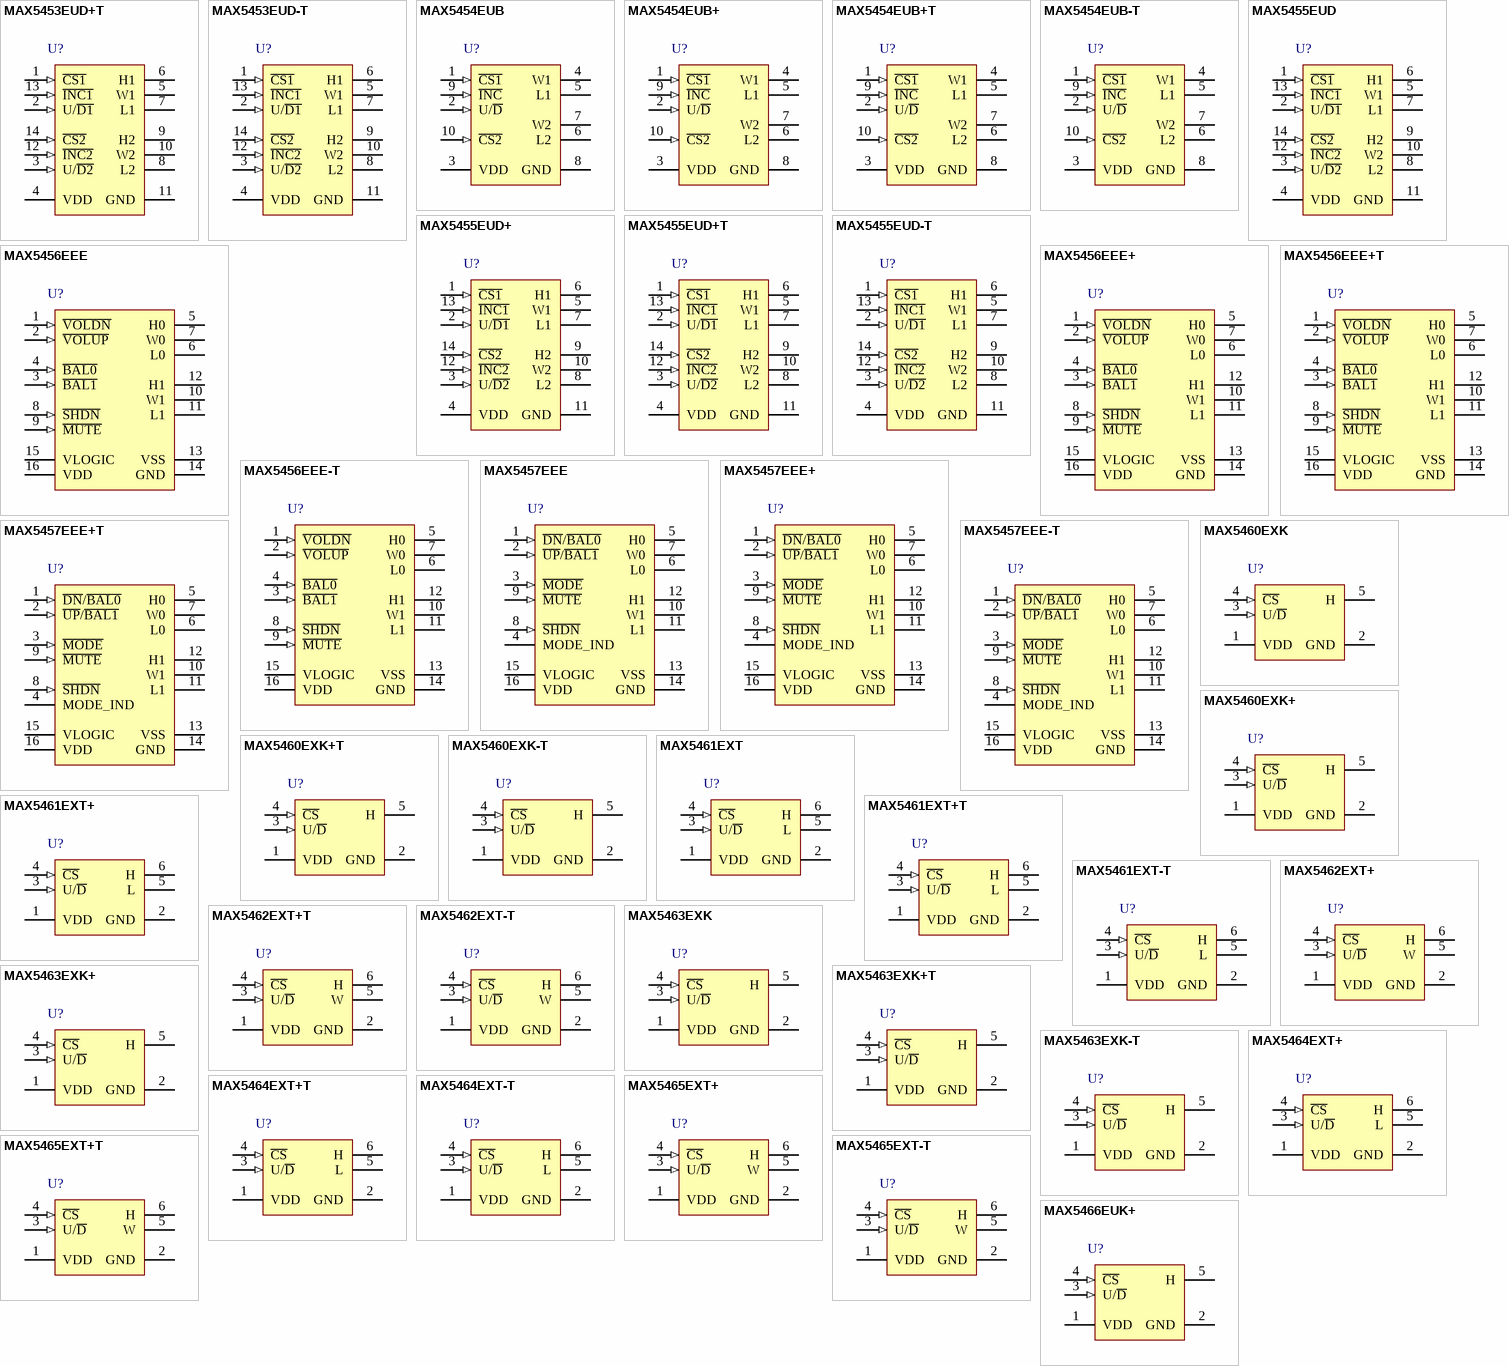
[diagram p21: symbols MAX5453EUD+T to MAX5466EUK+]

## MAX5453EUD+T
designator U?
Dual, Digital Potentiometers with Up/Down Control Interface, Volatile, Linear Taper, 256 Steps, -40 to 85 degC, 14-pin TSSOP (U14+1), Pb-Free, Tape and Reel; PartNumber: MAX5453EUD+T; DatasheetVersion: Rev. 2; PackageVersion: Rev. L, 07/2010; PackageReference: U14+1; PackageDescription: 14-Pin Thin Shrink Small-Outline Package (U14+1), Body 5 x 4.4 mm, Pitch 0.65 mm; Supplier 1: Digi-Key; Supplier Part Number 1: MAX5453EUD+T-ND; Supplier 2: Mouser; Supplier Part Number 2: 700-MAX5453EUDT; Control Interface: Up/Down; Mounting Technology: Surface Mount; Code_JEDEC: MO-153; ComponentLink1Description: Manufacturer URL; ComponentLink1URL: http://www.maximintegrated.com/; ComponentLink2Description: Datasheet; ComponentLink2URL: http://datasheets.maximintegrated.com/en/ds/MAX5450-MAX5455.pdf; ComponentLink3Description: Package Specification; ComponentLink3URL: http://pdfserv.maximintegrated.com/package_dwgs/21-0066.PDF
footprint MAXM-U14+1_N (SOP, 14-Leads, Body 5x4.4mm, Pitch 0.65mm, IPC Medium Density)
footprint MAXM-U14+1_L (SOP, 14-Leads, Body 5x4.4mm, Pitch 0.65mm, IPC High Density)
footprint MAXM-U14+1_M (SOP, 14-Leads, Body 5x4.4mm, Pitch 0.65mm, IPC Low Density)
pins: 1 ~{CS1} (in) "Chip-Select Input of Resistor 1. Drive low to change wiper position W1 through I\N\C\ and U/D\.", 2 U/~{D1} (in) "Up/Down Control Input of Resistor 1. With U/D\1\ low, a high-to-low I\N\C\1\ transition decrements wiper position W1. With U/D\1\ high, a high-to-low I\N\C\1\ transition increments wiper position W1.", 3 U/~{D2} (in) "Up/Down Control Input of Resistor 2. With U/D\2\ low, a high-to-low I\N\C\2\ transition decrements wiper position W2.  With U/D\2\ high, a high-to-low I\N\C\2\ transition increments wiper position W2.", 4 VDD (power) "Power Supply", 5 W1 "Wiper Terminal of Resistor 1", 6 H1 "High Terminal of Resistor 1", 7 L1 "Low Terminal of Resistor 1", 8 L2 "Low Terminal of Resistor 2", 9 H2 "High Terminal of Resistor 2", 10 W2 "Wiper Terminal of Resistor 2", 11 GND (power) "Ground", 12 ~{INC2} (in) "Wiper Increment Control Input. With C\S\2\ low, a high-to-low transition increments (U/D\2\ high) or decrements (U/D\2\ low) wiper position W2.", 13 ~{INC1} (in) "Wiper Increment Control Input. With C\S\1\ low, a high-to-low transition increments (U/D\1\ high) or decrements (U/D\1\ low) wiper position W1.", 14 ~{CS2} (in) "Chip-Select Input of Resistor 2.  Drive low to change wiper position W2 through I\N\C\ and U/D\."

## MAX5453EUD-T
designator U?
Dual, Digital Potentiometers with Up/Down Control Interface, Volatile, Linear Taper, 256 Steps, -40 to 85 degC, 14-pin TSSOP (U14-1), Tape and Reel; PartNumber: MAX5453EUD-T; DatasheetVersion: Rev. 2; PackageVersion: Rev. L, 07/2010; PackageReference: U14-1; PackageDescription: 14-Pin Thin Shrink Small-Outline Package (U14-1), Body 5 x 4.4 mm, Pitch 0.65 mm; Supplier 1: Mouser; Supplier Part Number 1: N/A; Control Interface: Up/Down; Mounting Technology: Surface Mount; Code_JEDEC: MO-153; ComponentLink1Description: Manufacturer URL; ComponentLink1URL: http://www.maximintegrated.com/; ComponentLink2Description: Datasheet; ComponentLink2URL: http://datasheets.maximintegrated.com/en/ds/MAX5450-MAX5455.pdf; ComponentLink3Description: Package Specification; ComponentLink3URL: http://pdfserv.maximintegrated.com/package_dwgs/21-0066.PDF
footprint MAXM-U14-1_N (SOP, 14-Leads, Body 5x4.4mm, Pitch 0.65mm, IPC Medium Density)
footprint MAXM-U14-1_L (SOP, 14-Leads, Body 5x4.4mm, Pitch 0.65mm, IPC High Density)
footprint MAXM-U14-1_M (SOP, 14-Leads, Body 5x4.4mm, Pitch 0.65mm, IPC Low Density)
pins: 1 ~{CS1} (in) "Chip-Select Input of Resistor 1. Drive low to change wiper position W1 through I\N\C\ and U/D\.", 2 U/~{D1} (in) "Up/Down Control Input of Resistor 1. With U/D\1\ low, a high-to-low I\N\C\1\ transition decrements wiper position W1. With U/D\1\ high, a high-to-low I\N\C\1\ transition increments wiper position W1.", 3 U/~{D2} (in) "Up/Down Control Input of Resistor 2. With U/D\2\ low, a high-to-low I\N\C\2\ transition decrements wiper position W2.  With U/D\2\ high, a high-to-low I\N\C\2\ transition increments wiper position W2.", 4 VDD (power) "Power Supply", 5 W1 "Wiper Terminal of Resistor 1", 6 H1 "High Terminal of Resistor 1", 7 L1 "Low Terminal of Resistor 1", 8 L2 "Low Terminal of Resistor 2", 9 H2 "High Terminal of Resistor 2", 10 W2 "Wiper Terminal of Resistor 2", 11 GND (power) "Ground", 12 ~{INC2} (in) "Wiper Increment Control Input. With C\S\2\ low, a high-to-low transition increments (U/D\2\ high) or decrements (U/D\2\ low) wiper position W2.", 13 ~{INC1} (in) "Wiper Increment Control Input. With C\S\1\ low, a high-to-low transition increments (U/D\1\ high) or decrements (U/D\1\ low) wiper position W1.", 14 ~{CS2} (in) "Chip-Select Input of Resistor 2.  Drive low to change wiper position W2 through I\N\C\ and U/D\."

## MAX5454EUB
designator U?
Dual Digital Potentiometers with Up/Down Control Interface, Volatile, Linear Taper, 256 Steps, -40 to 85 degC, 10-pin uMAX (U10CN-1); PartNumber: MAX5454EUB; DatasheetVersion: Rev. 2; PackageVersion: Rev. L, 07/2008; PackageReference: U10CN-1; PackageDescription: 10-Pin Micro-MAX, Thin Shrink Small-Outline (U10CN-1), Body 3 x 3 mm, Pitch 0.5 mm; Supplier 1: Mouser; Supplier Part Number 1: N/A; Control Interface: Up/Down; Mounting Technology: Surface Mount; Code_JEDEC: MO-187; ComponentLink1Description: Manufacturer URL; ComponentLink1URL: http://www.maximintegrated.com/; ComponentLink2Description: Datasheet; ComponentLink2URL: http://datasheets.maximintegrated.com/en/ds/MAX5450-MAX5455.pdf; ComponentLink3Description: Package Specification; ComponentLink3URL: http://pdfserv.maximintegrated.com/package_dwgs/21-0061.PDF
footprint MAXM-U10CN-1_N (SOP, 10-Leads, Body 3x3mm, Pitch 0.5mm, IPC Medium Density)
footprint MAXM-U10CN-1_L (SOP, 10-Leads, Body 3x3mm, Pitch 0.5mm, IPC High Density)
footprint MAXM-U10CN-1_M (SOP, 10-Leads, Body 3x3mm, Pitch 0.5mm, IPC Low Density)
pins: 1 ~{CS1} (in) "Chip-Select Input of Resistor 1. Drive low to change wiper position W1 through I\N\C\ and U/D\.", 2 U/~{D} (in) "Up/Down Control Input. With U/D\ low, a high-to-low I\N\C\ transition decrements wiper position. With U/D\ high, a high-to-low I\N\C\ transition increments wiper position.", 3 VDD (power) "Power Supply", 4 W1 "Wiper Terminal of Resistor 1", 5 L1 "Low Terminal of Resistor 1", 6 L2 "Low Terminal of Resistor 2", 7 W2 "Wiper Terminal of Resistor 2", 8 GND (power) "Ground", 9 ~{INC} (in) "Wiper Increment Control Input. With C\S\1\  low, a high-to-low transition increments (U/D\ high) or decrements (U/D\ low) wiper position W1. This applies similarly for C\S\2\ and W2.", 10 ~{CS2} (in) "Chip-Select Input of Resistor 2.  Drive low to change wiper position W2 through I\N\C\ and U/D\."

## MAX5454EUB+
designator U?
Dual Digital Potentiometers with Up/Down Control Interface, Volatile, Linear Taper, 256 Steps, -40 to 85 degC, 10-pin uMAX (U10CN+1), Pb-Free; PartNumber: MAX5454EUB+; DatasheetVersion: Rev. 2; PackageVersion: Rev. L, 07/2008; PackageReference: U10CN+1; PackageDescription: 10-Pin Micro-MAX, Thin Shrink Small-Outline (U10CN+1), Body 3 x 3 mm, Pitch 0.5 mm; Supplier 1: Digi-Key; Supplier Part Number 1: MAX5454EUB+-ND; Supplier 2: Mouser; Supplier Part Number 2: 700-MAX5454EUB; Control Interface: Up/Down; Mounting Technology: Surface Mount; Code_JEDEC: MO-187; ComponentLink1Description: Manufacturer URL; ComponentLink1URL: http://www.maximintegrated.com/; ComponentLink2Description: Datasheet; ComponentLink2URL: http://datasheets.maximintegrated.com/en/ds/MAX5450-MAX5455.pdf; ComponentLink3Description: Package Specification; ComponentLink3URL: http://pdfserv.maximintegrated.com/package_dwgs/21-0061.PDF
footprint MAXM-U10CN+1_N (SOP, 10-Leads, Body 3x3mm, Pitch 0.5mm, IPC Medium Density)
footprint MAXM-U10CN+1_L (SOP, 10-Leads, Body 3x3mm, Pitch 0.5mm, IPC High Density)
footprint MAXM-U10CN+1_M (SOP, 10-Leads, Body 3x3mm, Pitch 0.5mm, IPC Low Density)
pins: 1 ~{CS1} (in) "Chip-Select Input of Resistor 1. Drive low to change wiper position W1 through I\N\C\ and U/D\.", 2 U/~{D} (in) "Up/Down Control Input. With U/D\ low, a high-to-low I\N\C\ transition decrements wiper position. With U/D\ high, a high-to-low I\N\C\ transition increments wiper position.", 3 VDD (power) "Power Supply", 4 W1 "Wiper Terminal of Resistor 1", 5 L1 "Low Terminal of Resistor 1", 6 L2 "Low Terminal of Resistor 2", 7 W2 "Wiper Terminal of Resistor 2", 8 GND (power) "Ground", 9 ~{INC} (in) "Wiper Increment Control Input. With C\S\1\  low, a high-to-low transition increments (U/D\ high) or decrements (U/D\ low) wiper position W1. This applies similarly for C\S\2\ and W2.", 10 ~{CS2} (in) "Chip-Select Input of Resistor 2.  Drive low to change wiper position W2 through I\N\C\ and U/D\."

## MAX5454EUB+T
designator U?
Dual Digital Potentiometers with Up/Down Control Interface, Volatile, Linear Taper, 256 Steps, -40 to 85 degC, 10-pin uMAX (U10CN+1), Pb-Free, Tape and Reel; PartNumber: MAX5454EUB+T; DatasheetVersion: Rev. 2; PackageVersion: Rev. L, 07/2008; PackageReference: U10CN+1; PackageDescription: 10-Pin Micro-MAX, Thin Shrink Small-Outline (U10CN+1), Body 3 x 3 mm, Pitch 0.5 mm; Supplier 1: Digi-Key; Supplier Part Number 1: MAX5454EUB+T-ND; Supplier 2: Mouser; Supplier Part Number 2: 700-MAX5454EUBT; Control Interface: Up/Down; Mounting Technology: Surface Mount; Code_JEDEC: MO-187; ComponentLink1Description: Manufacturer URL; ComponentLink1URL: http://www.maximintegrated.com/; ComponentLink2Description: Datasheet; ComponentLink2URL: http://datasheets.maximintegrated.com/en/ds/MAX5450-MAX5455.pdf; ComponentLink3Description: Package Specification; ComponentLink3URL: http://pdfserv.maximintegrated.com/package_dwgs/21-0061.PDF
footprint MAXM-U10CN+1_N (SOP, 10-Leads, Body 3x3mm, Pitch 0.5mm, IPC Medium Density)
footprint MAXM-U10CN+1_L (SOP, 10-Leads, Body 3x3mm, Pitch 0.5mm, IPC High Density)
footprint MAXM-U10CN+1_M (SOP, 10-Leads, Body 3x3mm, Pitch 0.5mm, IPC Low Density)
pins: 1 ~{CS1} (in) "Chip-Select Input of Resistor 1. Drive low to change wiper position W1 through I\N\C\ and U/D\.", 2 U/~{D} (in) "Up/Down Control Input. With U/D\ low, a high-to-low I\N\C\ transition decrements wiper position. With U/D\ high, a high-to-low I\N\C\ transition increments wiper position.", 3 VDD (power) "Power Supply", 4 W1 "Wiper Terminal of Resistor 1", 5 L1 "Low Terminal of Resistor 1", 6 L2 "Low Terminal of Resistor 2", 7 W2 "Wiper Terminal of Resistor 2", 8 GND (power) "Ground", 9 ~{INC} (in) "Wiper Increment Control Input. With C\S\1\  low, a high-to-low transition increments (U/D\ high) or decrements (U/D\ low) wiper position W1. This applies similarly for C\S\2\ and W2.", 10 ~{CS2} (in) "Chip-Select Input of Resistor 2.  Drive low to change wiper position W2 through I\N\C\ and U/D\."

## MAX5454EUB-T
designator U?
Dual Digital Potentiometers with Up/Down Control Interface, Volatile, Linear Taper, 256 Steps, -40 to 85 degC, 10-pin uMAX (U10CN-1), Tape and Reel; PartNumber: MAX5454EUB-T; DatasheetVersion: Rev. 2; PackageVersion: Rev. L, 07/2008; PackageReference: U10CN-1; PackageDescription: 10-Pin Micro-MAX, Thin Shrink Small-Outline (U10CN-1), Body 3 x 3 mm, Pitch 0.5 mm; Supplier 1: Mouser; Supplier Part Number 1: N/A; Control Interface: Up/Down; Mounting Technology: Surface Mount; Code_JEDEC: MO-187; ComponentLink1Description: Manufacturer URL; ComponentLink1URL: http://www.maximintegrated.com/; ComponentLink2Description: Datasheet; ComponentLink2URL: http://datasheets.maximintegrated.com/en/ds/MAX5450-MAX5455.pdf; ComponentLink3Description: Package Specification; ComponentLink3URL: http://pdfserv.maximintegrated.com/package_dwgs/21-0061.PDF
footprint MAXM-U10CN-1_N (SOP, 10-Leads, Body 3x3mm, Pitch 0.5mm, IPC Medium Density)
footprint MAXM-U10CN-1_L (SOP, 10-Leads, Body 3x3mm, Pitch 0.5mm, IPC High Density)
footprint MAXM-U10CN-1_M (SOP, 10-Leads, Body 3x3mm, Pitch 0.5mm, IPC Low Density)
pins: 1 ~{CS1} (in) "Chip-Select Input of Resistor 1. Drive low to change wiper position W1 through I\N\C\ and U/D\.", 2 U/~{D} (in) "Up/Down Control Input. With U/D\ low, a high-to-low I\N\C\ transition decrements wiper position. With U/D\ high, a high-to-low I\N\C\ transition increments wiper position.", 3 VDD (power) "Power Supply", 4 W1 "Wiper Terminal of Resistor 1", 5 L1 "Low Terminal of Resistor 1", 6 L2 "Low Terminal of Resistor 2", 7 W2 "Wiper Terminal of Resistor 2", 8 GND (power) "Ground", 9 ~{INC} (in) "Wiper Increment Control Input. With C\S\1\  low, a high-to-low transition increments (U/D\ high) or decrements (U/D\ low) wiper position W1. This applies similarly for C\S\2\ and W2.", 10 ~{CS2} (in) "Chip-Select Input of Resistor 2.  Drive low to change wiper position W2 through I\N\C\ and U/D\."